# EAGLE library part 750341142 (library WE-PLN)
WE-PLN Planar Transformers Characteristics Switching frequency: 200kHz to 700kHz optimized Isolation voltage: 2250VDC Operating temp: -40°C to 125°C Flat wire windings with low DCR Applications Telecom PSU Industrial Power Supplies DC/DC Converters <https://www.we-online.com/components/media/o780001v209%20FAMILY-MID-PLN.jpg> Details see: www.we-online.com/en/components/products/WE-PLN <www.we-online.com/catalog/WE-PLN/?utm_source=eagle_model&utm_medium=description_link&utm_campaign=eisos_eagle> Created by Ella 2024-03-14 2024(C) Wurth Elektronik
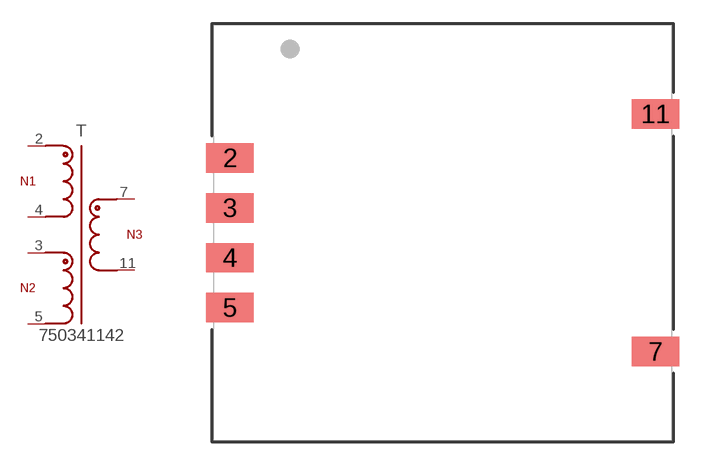
[diagram p8: symbol with the pads of WE-PLN_ERI25_L29.41W26.67H10.5_1446; footprint WE-PLN_ERI25_L29.41W26.67H10.5_1446]

Designator prefix T

## 750341142 (DATASHEET-URL: https://www.we-online.com/redexpert/spec/750341142?ae; HEIGHT: 10.5mm; L: 65uH; LENGTH: 26.67mm; MOUNT: SMT; N: 2:2:2; PART-NUMBER: 750341142; SIZE: ERI25/10/18; VALUE: 750341142; VT: 2250V(DC); VUS: 160Vus; WIDTH: 29.41mm)  [WE-PLN_ERI25_L29.41W26.67H10.5_1446]
2  2  pas
3  3  pas
4  4  pas
5  5  pas
7  7  pas
11  11  pas

## Footprint WE-PLN_ERI25_L29.41W26.67H10.5_1446 (pad centres in mm)
WE-PLN Planar Transformers Size: ERI25/10/18, SMT, 6Pins LXWXH=29.41X26.67X10.5mm
smd 3.05 x 1.89: 2 -13.655,4.8; 3 -13.655,1.6; 4 -13.655,-1.6; 5 -13.655,-4.8; 7 13.655,-7.62; 11 13.655,7.62